# Altium schematic symbol library Logic_IC.SchLib: 9 symbols
Pins are listed as number, name and electrical type; pins without a type are passive.

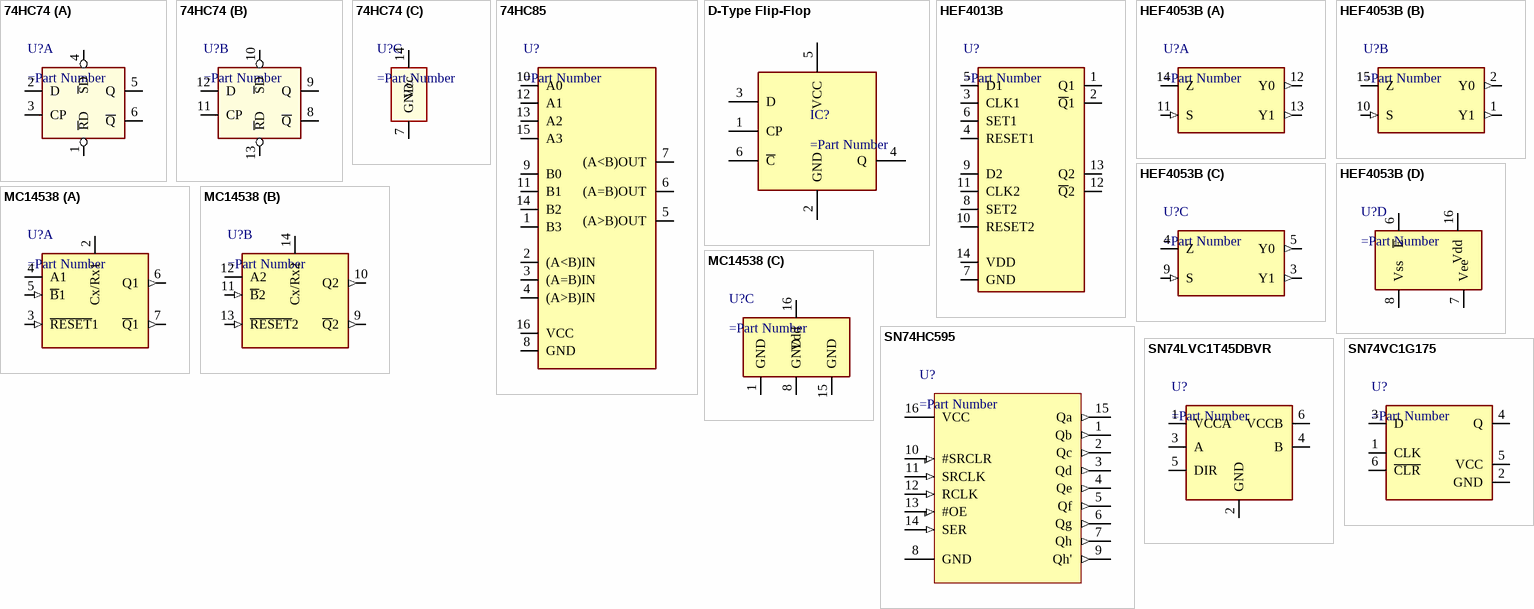
[diagram p0: symbols 74HC74 to SN74VC1G175]

## 74HC74
designator U?
part A pins: 1 ~{R}D, 2 D, 3 CP, 4 ~{S}D, 5 Q, 6 ~{Q}
part B pins: 8 ~{Q}, 9 Q, 10 ~{S}D, 11 CP, 12 D, 13 ~{R}D
part C pins: 7 GND, 14 Vcc

## 74HC85
designator U?
pins: 1 B3, 2 (A<B)IN, 3 (A=B)IN, 4 (A>B)IN, 5 (A>B)OUT, 6 (A=B)OUT, 7 (A<B)OUT, 8 GND, 9 B0, 10 A0, 11 B1, 12 A1, 13 A2, 14 B2, 15 A3, 16 VCC

## D-Type Flip-Flop
designator IC?
pins: 1 CP, 2 GND, 3 D, 4 Q, 5 VCC, 6 ~{C}

## HEF4013B
designator U?
pins: 1 Q1, 2 ~{Q}1, 3 CLK1, 4 RESET1, 5 D1, 6 SET1, 7 GND, 8 SET2, 9 D2, 10 RESET2, 11 CLK2, 12 ~{Q}2, 13 Q2, 14 VDD

## HEF4053B
designator U?
part A pins: 11 S (in), 12 Y0 (out), 13 Y1 (out), 14 Z
part B pins: 1 Y1 (out), 2 Y0 (out), 10 S (in), 15 Z
part C pins: 3 Y1 (out), 4 Z, 5 Y0 (out), 9 S (in)
part D pins: 6 ~{E}, 7 Vee, 8 Vss, 16 Vdd

## MC14538
designator U?
part A pins: 2 Cx/Rx1, 3 ~{RESET}1 (in), 4 A1, 5 ~{B}1 (in), 6 Q1 (out), 7 ~{Q}1 (out)
part B pins: 9 ~{Q}2 (out), 10 Q2 (out), 11 ~{B}2 (in), 12 A2, 13 ~{RESET}2 (in), 14 Cx/Rx2
part C pins: 1 GND, 8 GND, 15 GND, 16 Vdd

## SN74HC595
designator U?
pins: 1 Qb (out), 2 Qc (out), 3 Qd (out), 4 Qe (out), 5 Qf (out), 6 Qg (out), 7 Qh (out), 8 GND (power), 9 Qh' (out), 10 #SRCLR (in), 11 SRCLK (in), 12 RCLK (in), 13 #OE (in), 14 SER (in), 15 Qa (out), 16 VCC (power)

## SN74LVC1T45DBVR
designator U?
pins: 1 VCCA, 2 GND, 3 A, 4 B, 5 DIR, 6 VCCB

## SN74VC1G175
designator U?
pins: 1 CLK, 2 GND, 3 D, 4 Q, 5 VCC, 6 ~{CLR}